# Altium integrated library Sensores.IntLib: 10 symbols
Pins are listed as number, name and electrical type; pins without a type are passive.

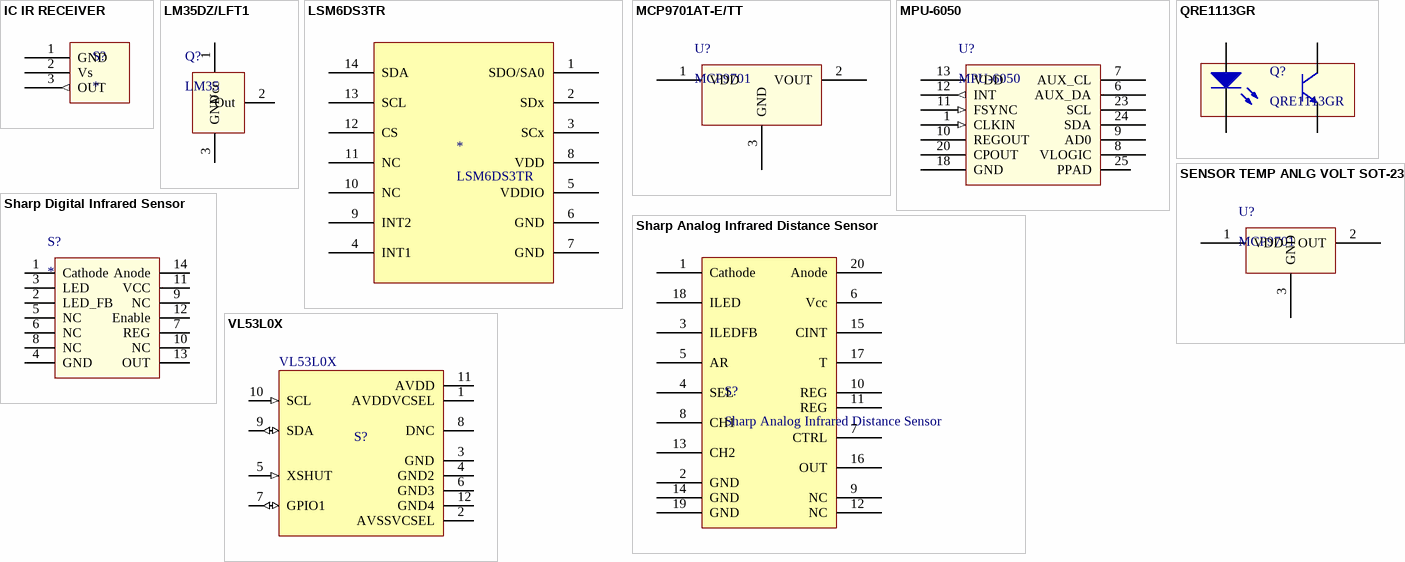
[diagram p0: symbols IC IR RECEIVER to VL53L0X]

## IC IR RECEIVER
designator S?
Manufacturer: Vishay Semiconductor Opto Division; Manufacturer Part Number: TSOP31240; Sensing Distance: 45m; B.P.F. Center Frequency: 40.0kHz; Voltage - Supply: 2.5 V ~ 5.5 V; Current - Supply: 350µA; Supplier 1: Digi-Key; RoHS: RoHS Compliant; Category: Sensors, Transducers; Stock 1: 4310; Pricing 1: 1=1.45, 5=1.4, 10=1.138, 25=0.98, 50=0.8488, 100=0.77, 500=0.6475, 1000=0.5775, 5000=0.525 (USD); Orientation: Side View; Mounting Type: Through Hole; Operating Temperature: -25°C ~ 85°C (TA); ComponentLink1URL: http://www.vishay.com/docs/82492/tsop312.pdf; ComponentLink1Description: http://www.vishay.com/docs/82492/tsop312.pdf; Supplier Part Number 1: TSOP31240-ND
footprint TSOP312
pins: 1 GND (power), 2 Vs (power), 3 OUT (out)

## LM35DZ/LFT1
designator Q?, comment LM35
SENSOR TEMP ANLG VOLT TO-92-3; Manufacturer: Texas Instruments; Manufacturer Part Number: LM35DZ/LFT1; Sensor Type: Analog, Local; Sensing Temperature - Local: 0°C ~ 100°C; Output Type: Analog Voltage; Voltage - Supply: 4 V ~ 30 V; Resolution: 10mV/°C; Accuracy - Highest (Lowest): ±1.5°C; Test Condition: 25°C; Supplier 1: Digi-Key; RoHS: RoHS Compliant; Category: Sensors, Transducers; Stock 1: 3057; Pricing 1: 1=1.86, 10=1.459, 25=1.2572, 100=0.9878, 250=0.898, 500=0.83066, 1000=0.74085 (USD); Packaging: Bulk; Part Status: Active; Sensing Temperature - Remote: -; Features: -; Operating Temperature: 0°C ~ 100°C; Mounting Type: Through Hole; Package / Case: TO-226-3, TO-92-3 (TO-226AA); Supplier Device Package: TO-92-3; ComponentLink1URL: http://www.ti.com/lit/ds/symlink/lm35.pdf; ComponentLink1Description: http://www.ti.com/lit/ds/symlink/lm35.pdf; Supplier Part Number 1: 296-35151-ND
footprint TO92
pins: 1 Vcc, 2 Out, 3 GND

## LSM6DS3TR
designator *
IMU ACCEL/GYRO I2C/SPI 14VFLGA; Manufacturer: STMicroelectronics; Sensor Type: Accelerometer, Gyroscope, 3 Axis; Output Type: I²C, SPI; Supplier 1: Digi-Key; Manufacturer Part Number: LSM6DS3TR; RoHS: RoHS Compliant; Category: Sensors, Transducers; Stock 1: 590; Pricing 1: 1=2.73, 10=2.451, 100=2.0085, 500=1.7098 (USD); Part Status: Active; Operating Temperature: -40°C ~ 85°C (TA); ComponentLink1URL: http://www.st.com/content/ccc/resource/technical/document/datasheet/a3/f5/4f/ae/8e/44/41/d7/DM00133076.pdf/files/DM00133076.pdf/jcr:content/translations/en.DM00133076.pdf; ComponentLink1Description: http://www.st.com/content/ccc/resource/technical/document/datasheet/a3/f5/4f/ae/8e/44/41/d7/DM00133076.pdf/files/DM00133076.pdf/jcr:content/translations/en.DM00133076.pdf
footprint LSM6DS3TR (LGA, 14-Leads, Body 3.00x2.50mmx0.83mm, Pitch 0.50mm)
pins: 1 SDO/SA0, 2 SDx, 3 SCx, 4 INT1, 5 VDDIO (power), 6 GND, 7 GND, 8 VDD (power), 9 INT2, 10 NC, 11 NC, 12 CS, 13 SCL (oc), 14 SDA (oc)

## MCP9701AT-E/TT
designator U?, comment MCP9701
SENSOR TEMP ANLG VOLT SOT-23-3; Manufacturer: Microchip Technology; Manufacturer Part Number: MCP9701AT-E/TT; Sensor Type: Analog, Local; Sensing Temperature - Local: -10°C ~ 125°C; Output Type: Analog Voltage; Voltage - Supply: 3.1 V ~ 5.5 V; Resolution: 19.5mV/°C; Accuracy - Highest (Lowest): ±2°C (-2°C, +4°C); Test Condition: 0°C ~ 70°C (-10°C ~ 125°C); Supplier 1: Digi-Key; RoHS: RoHS Compliant; Category: Sensors, Transducers; Stock 1: 23643; Pricing 1: 1=0.31, 25=0.26, 100=0.24 (USD); Packaging: Cut Tape (CT); Sensing Temperature - Remote: -; Features: -; Operating Temperature: -40°C ~ 125°C; Package / Case: TO-236-3, SC-59, SOT-23-3; Supplier Device Package: SOT-23-3; ComponentLink1URL: http://www.microchip.com/mymicrochip/filehandler.aspx?ddocname=en022859; ComponentLink1Description: http://www.microchip.com/mymicrochip/filehandler.aspx?ddocname=en022859; Supplier Part Number 1: MCP9701AT-E/TTCT-ND
footprint SOT23-3_N (SOT23, 3-Leads, Body 2.9x1.3mm, Pitch 0.95mm, Lead Span 2.5mm, IPC Medium Density)
pins: 1 VDD (power), 2 VOUT (power), 3 GND (power)

## MPU-6050
designator U?
GYRO/ACCELEROMETER 6AXIS 24QFN; Manufacturer: InvenSense; Sensor Type: Accelerometer, Gyroscope, 3 Axis; Output Type: I²C; Supplier 1: Digi-Key; Manufacturer Part Number: MPU-6050; RoHS: RoHS Compliant; Category: Sensors, Transducers; Stock 1: 5816; Pricing 1: 1=8.25, 5=7.232, 10=6.509, 25=5.786, 50=5.352, 100=4.6288, 500=4.3395, 1000=4.0502 (USD); Operating Temperature: -40°C ~ 85°C (TA); ComponentLink1URL: http://store.invensense.com/datasheets/invensense/MPU-6050_DataSheet_V3%204.pdf; ComponentLink1Description: http://store.invensense.com/datasheets/invensense/MPU-6050_DataSheet_V3%204.pdf; Supplier Part Number 1: 1428-1007-1-ND
footprint QFN50P400X400X80-25N (QFN, 24-Leads with exposed die pad, Body 4.05x4.05mm (max), Pitch 0.50mm, IPC Medium Density)
pins: 1 CLKIN (in), 2 NC hidden, 3 NC hidden, 4 NC hidden, 5 NC hidden, 6 AUX_DA (oc), 7 AUX_CL (oc), 8 VLOGIC (power), 9 AD0, 10 REGOUT (power), 11 FSYNC (in), 12 INT (out), 13 VDD (power), 14 NC hidden, 15 NC hidden, 16 NC hidden, 17 NC hidden, 18 GND (power), 19 RSV hidden, 20 CPOUT, 21 hidden, 22 RSV hidden, 23 SCL (oc), 24 SDA (oc), 25 PPAD (power)

## QRE1113GR
designator Q?
FAIRCHILD SEMICONDUCTOR - QRE1113GR - OPTOCOUPLER, PHOTOTRANSISTOR O/P, SMD-4, FULL REEL; Supplier 1: Newark; Manufacturer: FAIRCHILD SEMICONDUCTOR; Manufacturer Part Number: QRE1113GR; RoHS: YES; Stock 1: 6000; Pricing 1: 1000=0,3, 2000=0,27, 4000=0,265, 6000=0,26, 10000=0,259 (USD); ComponentLink1URL: http://www.farnell.com/datasheets/2210186.pdf; ComponentLink1Description: http://www.farnell.com/datasheets/2210186.pdf
footprint QRE1113GR
pins: 1 A, 2 K, 3, 4

## SENSOR TEMP ANLG VOLT SOT-23-3
designator U?, comment MCP9701
SENSOR TEMP ANLG VOLT SOT-23-3; Manufacturer: Microchip Technology; Manufacturer Part Number: MCP9701AT-E/TT; Sensor Type: Analog, Local; Sensing Temperature - Local: -10°C ~ 125°C; Output Type: Analog Voltage; Voltage - Supply: 3.1 V ~ 5.5 V; Resolution: 19.5mV/°C; Accuracy - Highest (Lowest): ±2°C (-2°C, +4°C); Test Condition: 0°C ~ 70°C (-10°C ~ 125°C); Supplier 1: Digi-Key; RoHS: RoHS Compliant; Category: Sensors, Transducers; Stock 1: 23643; Pricing 1: 1=0.31, 25=0.26, 100=0.24 (USD); Packaging: Cut Tape (CT); Sensing Temperature - Remote: -; Features: -; Operating Temperature: -40°C ~ 125°C; Package / Case: TO-236-3, SC-59, SOT-23-3; Supplier Device Package: SOT-23-3; ComponentLink1URL: http://www.microchip.com/mymicrochip/filehandler.aspx?ddocname=en022859; ComponentLink1Description: http://www.microchip.com/mymicrochip/filehandler.aspx?ddocname=en022859; Supplier Part Number 1: MCP9701AT-E/TTCT-ND
footprint SOT23-3 N (SOT23, 3-Leads, Body 2.9x1.3mm, Pitch 0.95mm, Lead Span 2.5mm, IPC Medium Density)
pins: 1 VDD (power), 2 OUT (power), 3 GND (power)

## Sharp Analog Infrared Distance Sensor
designator S?
SENSOR DIST-MEAS 10CM-150CM ANLG; Manufacturer: Sharp Microelectronics; Manufacturer Part Number: GP2Y0A60SZLF; Sensing Distance: 10 ~ 150cm; Voltage - Supply: 4.5 V ~ 5.5 V; Current - Supply: 50mA; Voltage - Output Difference (Typ) @ Distance: 1.6 V @ 10 ~ 150cm; Voltage - Output (Typ) @ Distance: 350mV @ 150cm; Supplier 1: Digi-Key; RoHS: RoHS Compliant; Category: Sensors, Transducers; Stock 1: 3828; Pricing 1: 1=8.94, 5=7.842, 10=7.057, 25=6.2732, 50=5.8026, 100=5.0184, 500=4.70476, 1000=4.428 (USD); Part Status: Active; Output Type: Analog; Operating Temperature: -10°C ~ 60°C (TA); ComponentLink1URL: http://media.digikey.com/pdf/Data%20Sheets/Sharp%20PDFs/GP2Y0A60SZxF.pdf; ComponentLink1Description: http://media.digikey.com/pdf/Data%20Sheets/Sharp%20PDFs/GP2Y0A60SZxF.pdf
footprint GP2Y0A60SZLF
pins: 1 Cathode, 2 GND, 3 ILEDFB, 4 SEL, 5 AR, 6 Vcc, 7 CTRL, 8 CH1, 9 NC, 10 REG, 11 REG, 12 NC, 13 CH2, 14 GND, 15 CINT, 16 OUT, 17 T, 18 ILED, 19 GND, 20 Anode

## Sharp Digital Infrared Sensor
designator S?
Proximity Sensors Dist Meas Sensor Digital, 15cm; Manufacturer: Sharp Microelectronics; Manufacturer Part Number: GP2Y0D815Z0F; Supplier 1: Mouser; RoHS: RoHS Compliant; Category: Proximity Sensors; Stock 1: 329; Pricing 1: 1=5.63, 10=4.98, 25=3.57, 100=3.48, 250=3.17, 500=2.91, 1000=2.72, 2000=2.71 (USD); Packaging: Bulk; Brand: Sharp Microelectronics; Standard Pack Qty: 1000; RoHS - Mouser: Y; Minimum Order Quantity: 1; Reeling: False; Supplier Part Number 1: 852-GP2Y0D815Z0F
footprint GP2Y0D815Z0F
footprint GP2Y0D815Z0F
pins: 1 Cathode, 2 LED_FB, 3 LED, 4 GND, 5 NC, 6 NC, 7 REG, 8 NC, 9 NC, 10 NC, 11 VCC, 12 Enable, 13 OUT, 14 Anode

## VL53L0X
designator S?  (value not drawn)
World smallest Time-of-Flight (ToF) ranging sensor; Manufacturer: STMIcroelectronics; Brand: STMicrolectronics
footprint VL53L0X
pins: 1 AVDDVCSEL, 2 AVSSVCSEL, 3 GND, 4 GND2, 5 XSHUT (in), 6 GND3, 7 GPIO1 (io), 8 DNC, 9 SDA (io), 10 SCL (in), 11 AVDD, 12 GND4